# Altium footprint library TPA6203A1.PcbLib: 1 footprints
Each footprint in its own frame and in the unit in brackets; x right, y up, seen from the top. Pads: shape width x height; smd on the part's side, far side on the other; paste and mask are expansions set on the pad; w line width, h text height; cw(c..) or ccw(c..) is an arc to the next point about the centre after c.
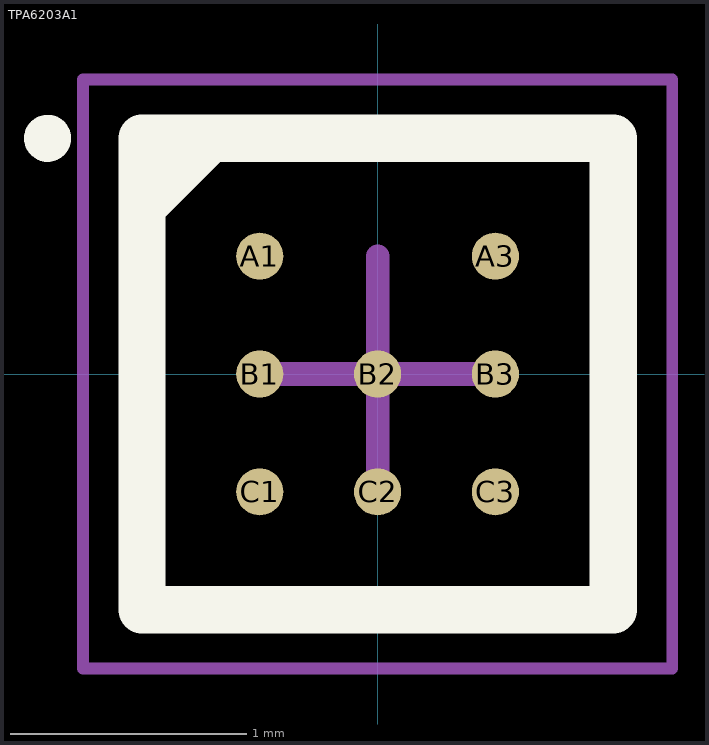
[diagram p0: the footprint, top view; thin cyan lines are the x and y axes]

## TPA6203A1 [mm] "1.25-W MONO FULLY DIFFERENTIAL AUDIO POWER AMPLIFIER"
height 1
pads (8):
  round 0.2 smd: A1(-0.5,0.5) A3(0.5,0.5) B1(-0.5,0) B2(0,0) B3(0.5,0) C1(-0.5,-0.5) C2(0,-0.5) C3(0.5,-0.5)
Top Overlay:
  circle w0.1: c-1.4,1 r0.05
  region: -0.707,1 -1,0.707 -1,1
  lines w0.2: -1,0.707 -0.707,1 ; -1,-1 -1,1 1,1 1,-1 -1,-1
Mechanical 13:
  lines w0.1: -1,-1 -1,1 1,1 1,-1 -1,-1
Mechanical 15:
  lines w0.05: -1.25,-1.25 -1.25,1.25 1.25,1.25 1.25,-1.25 -1.25,-1.25
  lines w0.1: -0.5,0 0.5,0 ; 0,-0.5 0,0.5
3D body "BGA9C50P3X3_200X200X100.step": height 1, standoff 0, extent -1,-1 1,1